# Altium schematic symbol library RDM_ALT_SCH.SchLib: 270 symbols (part 2 of 4)
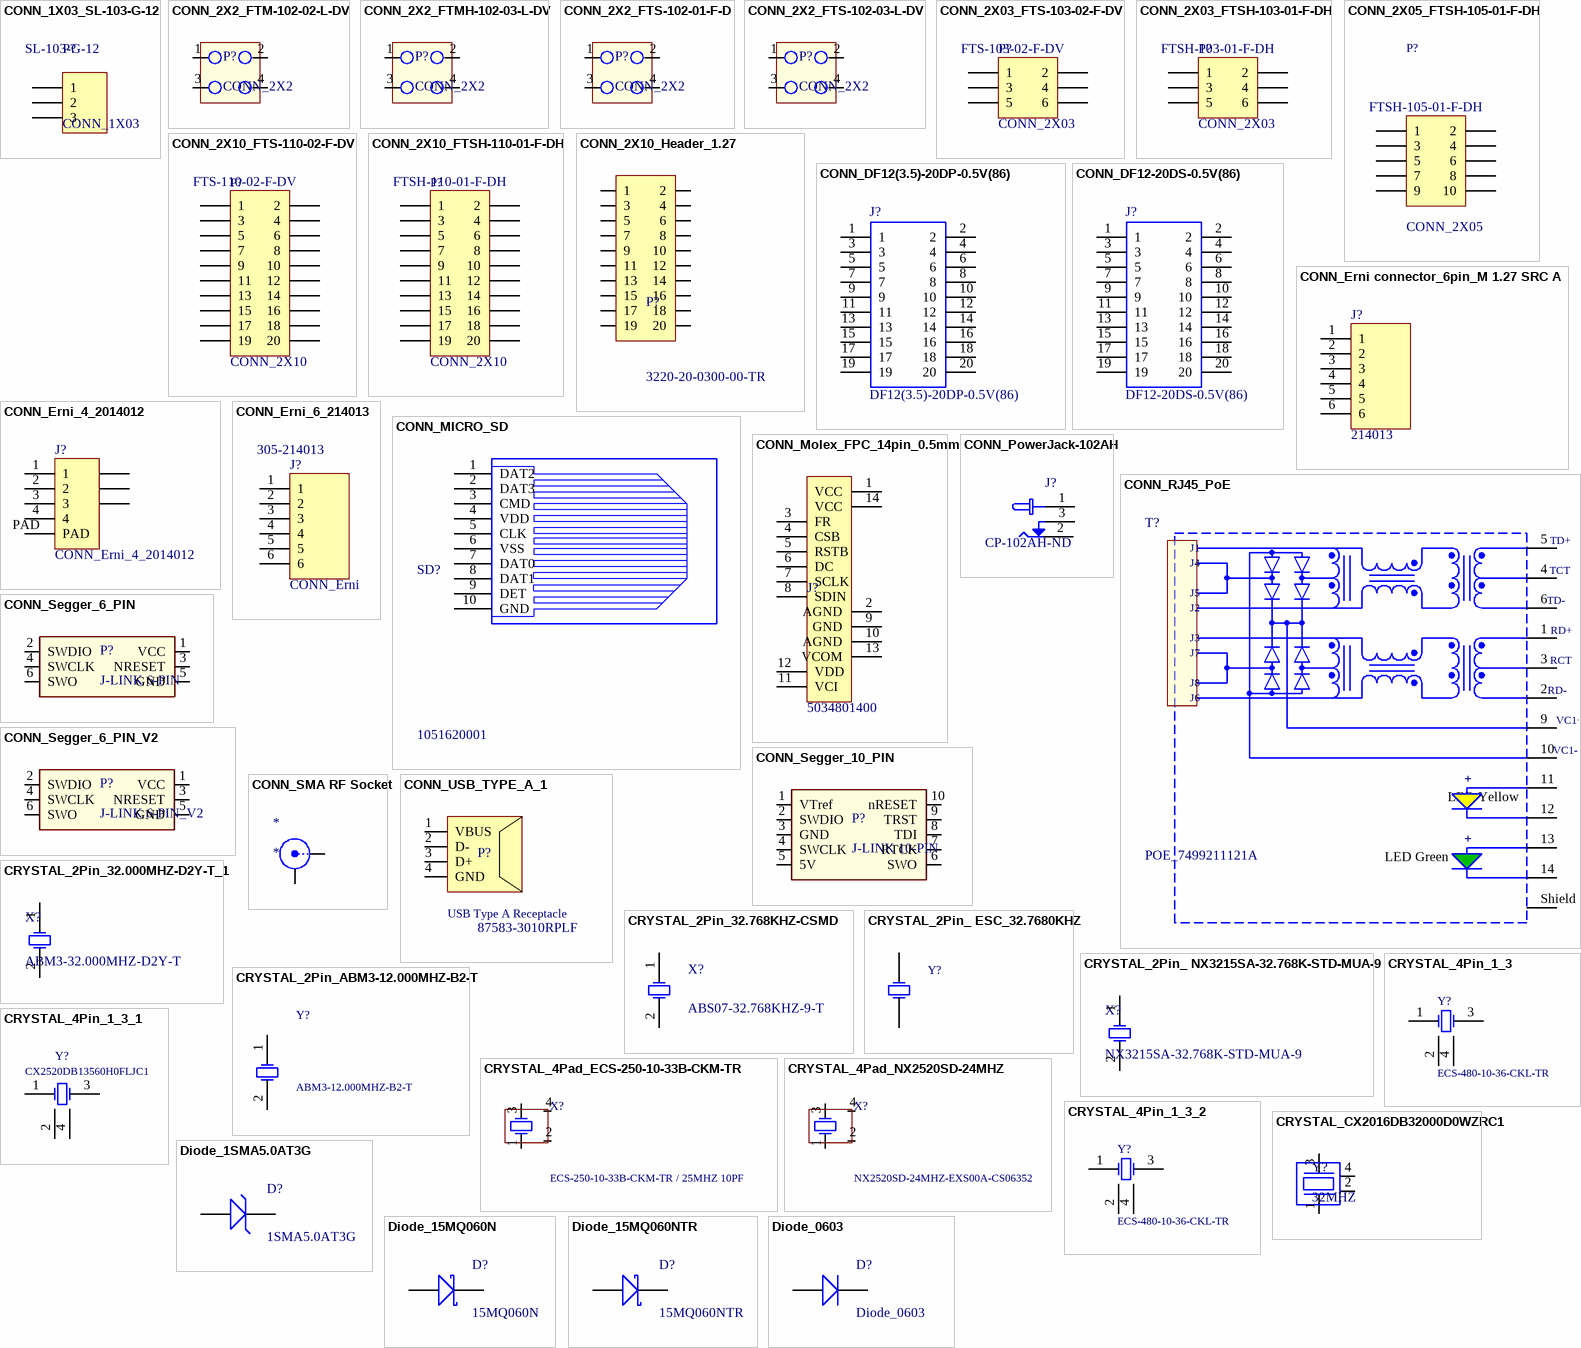
[diagram p10: symbols CONN_1X03_SL-103-G-12 to Diode_0603]

## CONN_2X2_FTS-102-03-L-DV
designator P?, comment CONN_2X2
4 Positionen, Steckleiste, kürzbar Steckverbinder, 0,050" (1,27mm), Oberflächenmontage, Gold; Manufacturer: Samtec; Mnaufacturer PartNr: FTS-102-03-L-DV; Replaceable: no; value: 2x2 connector; Footprint/Package: CONN SMD 1.27MM; Supplier 1: Digi-Key; Supplier Part Number 1: SAM1159-02-ND; Remark: *; Datasheet Link: http://suddendocs.samtec.com/prints/fts-d.pdf
footprint FTS-102-03-L-DV (CONN HEADER SMD 4POS 1.27MM)
pins: 1, 2, 3, 4

## CONN_2X03_FTS-103-02-F-DV
designator P?, comment CONN_2X03  Manufacturer PartNr: FTS-103-02-F-DV
6Pin, 2Rows, MICRO LOW-PROFILE TERMINAL STRIPS; Manufacturer: Samtec; Replaceable: *; Footprint/Package: *; Supplier 1: Digi-Key; Supplier 2: Mouser; Supplier 3: Farnell; Supplier Part Number 1: SAM13893DKR-ND; Supplier Part Number 2: 200-FTS10302FDVTR; Supplier Part Number 3: 1928022
footprint Samtec_FTS-103-02-F-DV_6_R
pins: 1, 2, 3, 4, 5, 6

## CONN_2X03_FTSH-103-01-F-DH
designator P?, comment CONN_2X03  Manufacturer PartNr: FTSH-103-01-F-DH
6Pin, 2Rows, MICRO LOW-PROFILE TERMINAL STRIPS; Manufacturer: Samtec; Replaceable: no; Footprint/Package: 1.27 mm
footprint FTSH-103-01-F-DH
pins: 1, 2, 3, 4, 5, 6

## CONN_2X05_FTSH-105-01-F-DH
designator P?, comment CONN_2X05  Manufacturer PartNr: FTSH-105-01-F-DH
10Pin, 2Rows, side/horizontally, MICRO LOW-PROFILE TERMINAL STRIPS; Manufacturer: Samtec; Replaceable: no; ComponentLink1Description: mouser; ComponentLink1URL: https://www.mouser.ch/ProductDetail/Samtec/FTSH-110-02-F-DH?qs=sGAEpiMZZMs%252bGHln7q6pm8Vn94ktop%2fJX5D4YaS%252bHqWex9Ov5NBeXw%3d%3d; Footprint/Package: 1.27 mm
footprint FTSH-105-01-F-DH
pins: 1, 2, 3, 4, 5, 6, 7, 8, 9, 10

## CONN_2X10_FTS-110-02-F-DV
designator P?, comment CONN_2X10  Manufacturer PartNr: FTS-110-02-F-DV
20Pin, 2Rows, MICRO LOW-PROFILE TERMINAL STRIPS; Manufacturer: Samtec; Replaceable: *; Footprint/Package: *; Supplier 1: Farnell; Supplier 2: Digi-Key; Supplier 3: Mouser; Supplier Part Number 1: 2856415; Supplier Part Number 2: SAM11236-ND; Supplier Part Number 3: 200-FTS11002FDV; ComponentLink1Description: mouser; ComponentLink1URL: https://www.mouser.ch/ProductDetail/Samtec/FTS-110-02-F-DV?qs=sGAEpiMZZMs%252bGHln7q6pm8Vn94ktop%2fJBJE8kZlEC9khaSba54SEVA%3d%3d
footprint Samtec_FTS-110-02-F-DV_20_R
pins: 1, 2, 3, 4, 5, 6, 7, 8, 9, 10, 11, 12, 13, 14, 15, 16, 17, 18, 19, 20

## CONN_2X10_FTSH-110-01-F-DH
designator P?, comment CONN_2X10  Manufacturer PartNr: FTSH-110-01-F-DH
20Pin, 2Rows, side/horizontally, MICRO LOW-PROFILE TERMINAL STRIPS; Manufacturer: Samtec; Replaceable: no; ComponentLink1Description: mouser; ComponentLink1URL: https://www.mouser.ch/ProductDetail/Samtec/FTSH-110-02-F-DH?qs=sGAEpiMZZMs%252bGHln7q6pm8Vn94ktop%2fJX5D4YaS%252bHqWex9Ov5NBeXw%3d%3d; Footprint/Package: 1.27 mm; Supplier 1: Digi-Key; Supplier 2: Farnell; Supplier 3: Mouser; Supplier Part Number 1: SAM11236-ND; Supplier Part Number 2: 2856415; Supplier Part Number 3: 200-FTS11002FDV
footprint FTSH-110-01-F-DH
pins: 1, 2, 3, 4, 5, 6, 7, 8, 9, 10, 11, 12, 13, 14, 15, 16, 17, 18, 19, 20

## CONN_2X10_Header_1.27
designator P?, comment 3220-20-0300-00-TR
Connector Header Surface Mount 20 position 0.050" (1.27mm); Manufacturer: CNC Tech; Replaceable: no; Footprint/Package: 2x10 Pads, see datasheet; Supplier 1: Digi-Key; ComponentLink1Description: mouser; ComponentLink1URL: https://www.mouser.ch/ProductDetail/Harwin/M50-3030342?qs=%2fha2pyFaduiRpn7Sn9fWVp%252bNpdzGcgnS82sSCZLLu%2fUjQZVEB%252bIkNw%3d%3d; Supplier Part Number 1: 1175-2646-1-ND; power: -; Dielectric Grade: -; Manufacturer PartNr: 3220-20-0300-00-TR; value: 3220-20-0300-00-TR; voltage: -
footprint CNC_Tech_Conn_Header_2x10 (3220-20-0300-00-TR)
pins: 1, 2, 3, 4, 5, 6, 7, 8, 9, 10, 11, 12, 13, 14, 15, 16, 17, 18, 19, 20

## CONN_DF12(3.5)-20DP-0.5V(86)
designator J?, comment DF12(3.5)-20DP-0.5V(86)
Connector,Board to Board,DF12 Hirose DF12 Series, 0.5mm Pitch 20 Way 2 Row Straight PCB Header, Solder Termination, 0.3A; Allied_Number: R1051072; Manufacturer_Name: Hirose; Manufacturer_Part_Number: DF12(3.5)-20DP-0.5V(86); RS Part Number: 6082064P; RS Price/Stock: http://uk.rs-online.com/web/p/products/6082064P; Allied Price/Stock: http://www.alliedelec.com/hirose-electric-df12-3-5-20dp-0-5v-86-/R1051072/; Mouser Part Number: 798-DF123520DP0.5V86; Mouser Price/Stock: https://www.mouser.com/Search/Refine.aspx?Keyword=798-DF123520DP0.5V86; Datasheet Link: https://www.hirose.com/product/en/download_file/key_name/DF12/category/Catalog/doc_file_id/31693/?file_category_id=4&item_id=23&is_series=1.pdf; Supplier 1: Digi-Key; Supplier 1 Part Number 1: H5230TR-ND
footprint DF12(4.0)-20DP
pins: 1, 2, 3, 4, 5, 6, 7, 8, 9, 10, 11, 12, 13, 14, 15, 16, 17, 18, 19, 20

## CONN_DF12-20DS-0.5V(86)
designator J?, comment DF12-20DS-0.5V(86)
Connector,Board to Board,DF12 Hirose DF12 Series 0.5mm 20 Way 2 Row Straight PCB Socket Surface Mount Board to Board; Allied_Number: R1051087; Manufacturer_Name: Hirose; Manufacturer_Part_Number: DF12-20DS-0.5V(86); RS Part Number: 1722478; RS Price/Stock: http://uk.rs-online.com/web/p/products/1722478; Allied Price/Stock: http://www.alliedelec.com/hirose-electric-df12-20ds-0-5v-86-/R1051087/; Mouser Part Number: 798-DF12-20DS-0.5V86; Mouser Price/Stock: https://www.mouser.com/Search/Refine.aspx?Keyword=798-DF12-20DS-0.5V86; Datasheet Link: https://www.hirose.com/product/en/products/DF12; Supplier 1: Digi_Key; Supplier Part Number 1: H5214TR-ND
footprint DF12-20DS
pins: 1, 2, 3, 4, 5, 6, 7, 8, 9, 10, 11, 12, 13, 14, 15, 16, 17, 18, 19, 20

## CONN_Erni connector_6pin_M 1.27 SRC A
designator J?, comment 214013
M 1.27 SRC A. 6-pin BA1; Manufacturer: ERNI; Manufacturer PartNr: 214013; ShortDescription: 214013
footprint ERNI_214013_6_R
footprint ERNI_214013 Randmontage_6_R
pins: 1, 2, 3, 4, 5, 6

## CONN_Erni_4_2014012
designator J?
footprint Erni_214012 (Stecker)
pins: 1, 2, 3, 4, PAD, PAD, PAD, PAD

## CONN_Erni_6_214013
designator J?, comment CONN_Erni  Supplier Part Number 1: 305-214013
Headers & Wire Housings 6P 1.27MM SNGL ROW R/A MALE BLK; Manufacturer: ERNI; Manufacturer PartNr: 214013; Replaceable: no; Footprint/Package: 1.27mm; ComponentLink1Description: mouser; ComponentLink1URL: https://www.mouser.ch/ProductDetail/ERNI/214013?qs=sGAEpiMZZMvMXbh32ZmHAMhEPQG9jaj7Ou3J%2fuOb4IQ%3d; Supplier 1: Mouser
footprint ERNI_214013 Randmontage_6_R
pins: 1, 2, 3, 4, 5, 6

## CONN_MICRO_SD
designator SD?, comment 1051620001
Memory Card Connectors 1.45H MICRO SD HEADER WITH D/C PIN, Molex; Manufacturer: Molex, LLC; Replaceable: no; Supplier 1: Digi-Key; Supplier Part Number 1: WM14405CT-ND; Manufacturer PartNr: 1051620001; power: -; Dielectric Grade: -; voltage: -; value: 1051620001
footprint SD-105162-001 (Molex microSD Card Con SMT Right Angle)
pins: 1 DAT2, 2 DAT3, 3 CMD, 4 VDD, 5 CLK, 6 VSS, 7 DAT0, 8 DAT1, 9 DET, 10 GND

## CONN_Molex_FPC_14pin_0.5mm
designator J?, comment 5034801400
14 Position FFC, FPC Connector Contacts, Top and Bottom, Pitch  0.020" (0.50mm) Surface Mount, Right Angle; Manufacturer: Molex; voltage: 50V; Replaceable: no; Manufacturer PartNr: 5034801400; Footprint/Package: specific, see datasheet; Supplier 1: Digi-Key; Supplier Part Number 1: WM1442CT-ND; value: 5034801400; tolerance: -; Dielectric Grade: -
footprint Molex_5034801400 (CONN FPC 14POS 0.50MM Right Angle)
pins: 1 VCC, 2 AGND, 3 FR, 4 CSB, 5 RSTB, 6 DC, 7 SCLK, 8 SDIN, 9 GND, 10 AGND, 11 VCI, 12 VDD, 13 VCOM, 14 VCC

## CONN_PowerJack-102AH
designator J?, comment CP-102AH-ND
PJ-102 Series 2 x 6.5 mm 24 V Horizontal Power Jack w/ Tapered PC Pins,Through Hole, Right Angle; Manufacturer: CUI Devices; Manufacturer PartNr: PJ-102AH; Replaceable: NO; Supplier 1: Digi-Key; Supplier Part Number 1: CP-102AH-ND; Footprint/Package: THD
footprint CUI_PJ-102AH
pins: 1, 2, 3

## CONN_RJ45_PoE
designator T?, comment POE_7499211121A
Magjack Connector WE-RJ45 (PoE) with LAN Transformer, 10/100 Base-T1 Port RJ45, 10/100 Base-T, AutoMDIX, two LEDs; power: PoE (up to 350 mA); Replaceable: no; tolerance: NA; Manaufacturer: Wurth Elektronik; ComponentLink1Description: Manufacturer; ComponentLink1URL: http://www.we-online.de; ComponentLink2Description: Datasheet; ComponentLink2URL: http://katalog.we-online.de/pbs/datasheet/7499211121A.pdf; Manufacturer PartNr: 7499211121A; Supplier 1: Digi-Key; Supplier Part Number 1: 732-1654-ND; value: POE_7499211121A; DIelectric Grade: NA; voltage: NA
footprint PoE_7499211121A (1 Port RJ45 Magjac, Power over Ethernet)
pins: 1 RD+, 2 RD-, 3 RCT, 4 TCT, 5 TD+, 6 TD-, 9 VC1+, 10 VC1-, 11, 12, 13, 14, Shield
text: J1; J4; J5; J2; J3; J7; J8; J6; +; LED Yellow; LED Green

## CONN_Segger_6_PIN
designator P?, comment J-LINK 6-PIN
Segger, J-Link 6-pin Needle Adapter
footprint CONN-SEGGER-6-PIN (J-Link 6-pin Needle Adapter)
pins: 1 VCC, 2 SWDIO, 3 NRESET, 4 SWCLK, 5 GND, 6 SWO

## CONN_Segger_6_PIN_V2
designator P?, comment J-LINK 6-PIN_V2
Segger, J-Link 6-pin Needle Adapter without alignment holes.; Manufacturer PartNr: Segger 6-Pin Needle Adapter; Remark: Comprised of 3 holes and 6 pads; Replaceable: no; value: J Link 6 pin; Datasheet Link: https://www.segger.com/products/debug-probes/j-link/accessories/adapters/6-pin-needle-adapter/; Footprint/Package: See datasheet; Supplier 1: N/A; Supplier Part Number 1: N/A
footprint CONN-SEGGER-6-PIN_VERS2 (J-Link 6-pin Needle Adapter without holes for alignment)
pins: 1 VCC, 2 SWDIO, 3 NRESET, 4 SWCLK, 5 GND, 6 SWO

## CONN_Segger_10_PIN
designator P?, comment J-LINK 10-PIN
Segger, J-Link 10-pin Needle Adapter
footprint CONN-SEGGER-10-PIN (J-Link 10-pin Needle Adapter)
pins: 1 VTref, 2 SWDIO, 3 GND, 4 SWCLK, 5 5V, 6 SWO, 7 RTCK, 8 TDI, 9 TRST, 10 nRESET

## CONN_SMA RF Socket
designator *
SMA Straight PCB SMD Connector for RF
footprint CONSMA001-SMD-G
pins: 1 X, 2 Y

## CONN_USB_TYPE_A_1
designator P?, comment 87583-3010RPLF
USB - A USB 2.0 Receptacle Connector 4 Position Surface Mount, Right Angle; Manufacturer: Amphenol ICC; Replaceable: no; Footprint/Package: SMD, see datasheet; Supplier 1: Digi-Key; ComponentLink1Description: mouser; ComponentLink1URL: https://www.mouser.ch/ProductDetail/Harwin/M50-3030342?qs=%2fha2pyFaduiRpn7Sn9fWVp%252bNpdzGcgnS82sSCZLLu%2fUjQZVEB%252bIkNw%3d%3d; Supplier Part Number 1: 609-6260-1-ND; power: -; Dielectric Grade: -; Manufacturer PartNr: 87583-3010RPLF; voltage: -; value: 87583-3010RPLF
footprint CONN_RCPT_USB_TYPE_A (87583-3010RPLF Amphenol  4Pin SMD)
pins: 1 VBUS, 2 D- , 3 D+, 4 GND
text: USB Type A Receptacle

## CRYSTAL_2Pin_32.000MHZ-D2Y-T_1
designator X?, comment ABM3-32.000MHZ-D2Y-T
Crystal  32MHz ±20ppm Crystal 18pF 25 Ohms 2-SMD, No Lead; Manufacturer: Abracon; Replaceable: no; Footprint/Package: 2-SMD, specific see datasheet; voltage: -; Manufacturer PartNr: ABM3-32.000MHZ-D2Y-T; Price: None; value: ABM3-32.000MHZ-D2Y-T; Supplier 1: Digi-Key; Supplier Part Number 1: 535-10648-6-ND; tolerance: ±20ppm; Dielectric Grade: -
footprint XTAL500X320X130N
pins: 1 OSC1, 2 OSC2

## CRYSTAL_2Pin_32.768KHZ-CSMD
designator X?, comment ABS07-32.768KHZ-9-T
32.768kHz ±20ppm Crystal 9pF 70 kOhms 2-SMD, No Lead; Manufacturer: Abracon; Replaceable: no; Supplier 1: Digi-Key; Supplier Part Number 1: 535-9544-1-ND; Manufacturer PartNr: ABS07-32.768KHZ-9-T; Case/Package: CSMD; tolerance: 20ppm; ComponentLink1URL: https://www.verical.com/server-webapp/html/getDatasheet?partID=719730; ComponentLink1Description: https://www.verical.com/server-webapp/html/getDatasheet?partID=719730; ComponentLink2URL: http://www.farnell.com/datasheets/1883680.pdf; ComponentLink2Description: http://www.farnell.com/datasheets/1883680.pdf; ComponentLink3URL: http://www.abracon.com/Resonators/ABS07.pdf; ComponentLink3Description: http://www.abracon.com/Resonators/ABS07.pdf; ComponentLink4URL: http://www.farnell.com/datasheets/1912628.pdf; ComponentLink4Description: http://www.farnell.com/datasheets/1912628.pdf; ComponentLink5URL: https://abracon.com/Support/PackageDrawing/Resonators/ABS07.PDF; ComponentLink5Description: https://abracon.com/Support/PackageDrawing/Resonators/ABS07.PDF; power: -; value: ABS07-32.768KHZ-9-T; voltage: -; Footprint/Package: 2-SMD, No Lead
footprint ABS-07 (2-SMD, No Lead)
pins: 1 OSC1, 2 OSC2

## CRYSTAL_2Pin_ ESC_32.7680KHZ
designator Y?, comment 32.7680KHZ 9PF SMD  (value not drawn)
32,768kHz, ±20ppm crystal, 9pF,2-SMD, no lead; Manufacturer: ESC Inc.; Manufacturer PartNr: ECS-.327-9-12R-TR; Replaceable: no; value: XTAL 32.768kHz; ShortDescription: 32.768KHZ; Footprint/Package: 0.8x1.3; Supplier 1: Digi-Key; Supplier Part Number 1: XC2745CT-ND; ComponentLink1Description: digikey; ComponentLink1URL: https://www.digikey.com/product-detail/en/abracon-llc/ABM3-12.000MHZ-B2-T/535-9100-2-ND/675295; Load Capacitance: 9 pF; Datasheet Link: https://ecsxtal.com/store/pdf/ECX-12R.pdf
footprint ECS_327-9-12R-TR (SMD CRYSTAL 32.7680KHZ)
pins: 1 OSC1, 2 OSC2

## CRYSTAL_2Pin_ NX3215SA-32.768K-STD-MUA-9
designator X?, comment NX3215SA-32.768K-STD-MUA-9
32.768kHz ±20ppm Crystal 9pF 70 kOhms 2-SMD, No Lead; Manufacturer: NDK America; Replaceable: no; Footprint/Package: 2-SMD, specific see datasheet; voltage: -; Manufacturer PartNr: NX3215SA-32.768K-STD-MUA-9; value: NX3215SA-32.768K-STD-MUA-9; Supplier 1: Digi-Key; Supplier Part Number 1: 644-1155-1-ND; tolerance: ±20ppm; Dielectric Grade: -; power: -
footprint NX3215SA (CRYSTAL NDK America 2-SMD, No Lead)
pins: 1 OSC1, 2 OSC2

## CRYSTAL_2Pin_ABM3-12.000MHZ-B2-T
designator Y?, comment ABM3-12.000MHZ-B2-T
12MHz ±20ppm Crystal 18pF 60 Ohms 2-SMD, No Lead; Manufacturer: Abracon LLC; Replaceable: no; Manufacturer PartNr: ABM3-12.000MHZ-B2-T; ShortDescription: 12MHz; Footprint/Package: 2-SMD; ComponentLink1Description: digikey; ComponentLink1URL: https://www.digikey.com/product-detail/en/abracon-llc/ABM3-12.000MHZ-B2-T/535-9100-2-ND/675295
footprint ABM3-12.000MHZ-B2-T
pins: 1 OSC1, 2 OSC2

## CRYSTAL_4Pad_ECS-250-10-33B-CKM-TR
designator X?, comment ECS-250-10-33B-CKM-TR / 25MHZ 10PF
25MHz ±10ppm Crystal 10pF 40 Ohms 4-SMD, No Lead; Manufacturer: ESC Inc.; Replaceable: no; Manufacturer PartNr: ECS-250-10-33B-CKM-TR; Footprint/Package: 4-SMD, No Lead; Supplier 1: Digi-Key; Supplier Part Number 1: XC2479DKR-ND; ComponentLink1Description: digikey; ComponentLink1URL: https://www.digikey.com/product-detail/en/abracon-llc/ABM3-12.000MHZ-B2-T/535-9100-2-ND/675295; Load Capacitance: 10 pF; value: ECS-250-10-33B-CKM-TR / 25MHZ 10PF; Dielectric Grade: -; voltage: -
footprint ECS-33B (SMD Crystal, SMD; Body 3.2 x 2.5 mm (LxW max))
pins: 1 OSC1, 2 OSC2, 3 OSC2, 4 OSC3

## CRYSTAL_4Pad_NX2520SD-24MHZ
designator X?, comment NX2520SD-24MHZ-EXS00A-CS06352
24MHz ±15ppm Crystal 12pF 50 Ohms 4-SMD, No Lead; Manufacturer: NDK America, Inc.; Replaceable: no; Manufacturer PartNr: NX2520SD-24MHZ-EXS00A-CS06352; Footprint/Package: 4-SMD, No Lead; Supplier 1: Digi-Key; Supplier Part Number 1: 644-1214-1-ND; ComponentLink1Description: digikey; ComponentLink1URL: https://www.digikey.com/product-detail/en/abracon-llc/ABM3-12.000MHZ-B2-T/535-9100-2-ND/675295; Load Capacitance: 12 pF; value: NX2520SD-24MHZ-EXS00A-CS06352; Dielectric Grade: -; voltage: -
footprint NX2520SD-24MHZ-EX (SMD Crystal, SMD; Body 3.2 x 2.5 mm (LxW max))
pins: 1 OSC1, 2 OSC2, 3 OSC2, 4 OSC3

## CRYSTAL_4Pin_1_3
designator Y?, comment ECS-480-10-36-CKL-TR
48MHz, SMD CRYSTAL; Manufacturer: ECS; Replaceable: no; Manufacturer PartNr: ECS-480-10-36-CKL-TR; ShortDescription: 48MHz; Footprint/Package: 2.5 x 2.0 mm; ComponentLink1Description: mouser; ComponentLink1URL: https://www.mouser.ch/ProductDetail/ECS/ECS-480-10-36-CKL-TR?qs=%2fha2pyFaduiJDDUMn7kLm%2fCYfOvqPL5iL4hK6g%252bPFacvo4wWhO4d4UMTkDEH%252bJpH; Supplier 1: Mouser; Supplier Part Number 1: 520-480-10-36-CKLT
footprint ECS_ECX-2236_4_R
pins: 1 OSC1, 2 OSC2, 3 OSC2, 4 OSC3

## CRYSTAL_4Pin_1_3_1
designator Y?, comment CX2520DB13560H0FLJC1
13.56MHz ±10ppm Crystal 12pF 150 Ohms 4-SMD, No Lead
footprint AVX/Kyocera_DFN4_4_RWH (TXCCORPORATION_4-SMD_4_R)
footprint AVX/Kyocera_DFN4_4_RWH
pins: 1 OSC1, 2 OSC2, 3 OSC3, 4 OSC4

## CRYSTAL_4Pin_1_3_2
designator Y?, comment ECS-480-10-36-CKL-TR
48MHz, SMD CRYSTAL; Manufacturer: ECS; Manufacturer PartNr: ECS-480-10-36-CKL-TR; ShortDescription: 48MHz
footprint ECS_ECX-2236_4_R
pins: 1 OSC1, 2 OSC2, 3 OSC2, 4 OSC3

## CRYSTAL_CX2016DB32000D0WZRC1
designator Y?, comment 32MHZ
32MHz ±25ppm Crystal 8pF 60 Ohms 4-SMD, No Lead; Manufacturer: Kyocera; Manufacturer PartNr: CX2016DB32000D0WZRC1; value: XTAL 32 MHz; Replaceable: no; Supplier 1: Digi-Key; Supplier Part Number 1: 1253-1586-1-ND; Case/Package: SMD/SMT; Frequency: 32MHz; Frequency Stability: 25ppm; Load Capacitance: 8pF; Footprint/Package: See datasheet; Datasheet Link: https://media.digikey.com/pdf/Data%20Sheets/AVX%20PDFs/CX2016DB32000D0WZRC1_Spec.pdf
footprint Kyocera_CX2016DB32000 (CRYSTAL 32.0000MHZ 8PF SMD)
pins: 1 OSC1, 2 OSC2, 3 OSC3, 4 OSC4

## Diode_1SMA5.0AT3G
designator D?, comment 1SMA5.0AT3G
TVS Zener 5V 400W UniDirectional SMA ON Semiconductor 1SMA5.0AT3G,2-Pin SMA; Manufacturer: Littelfuse Inc.; Replaceable: no; voltage: 6.4V; Manufacturer PartNr: 1SMA5.0AT3G; Supplier 1: Digi-Key; Supplier Part Number 1: F11528CT-ND; Footprint/Package: DO-214AC, SMA; value: 1SMA5.0AT3G
footprint ISM_DIOM5226X220N
pins: 1 K, 2 A

## Diode_15MQ060N
designator D?, comment 15MQ060N
Diode Schottky 60V 2.1A Surface Mount SMA (DO-214AC); Manufacturer: SMC; Manufacturer PartNr: 15MQ060NTR; Replaceable: no; value: 15MQ060N; Supplier 1: Digi-Key; Supplier Part Number 1: 1655-1353-1-ND; voltage: 60V; Footprint/Package: DO-214AC, SMA
footprint SMC_SMA_2_R
pins: 1 K, 2 A

## Diode_15MQ060NTR 
designator D?, comment 15MQ060NTR
Diode Schottky 60V 2,1A Oberflächenmontage SMA (DO-214AC); Manufacturer: SMC Diode Solutions; Replaceable: no; ComponentLink1Description: mouser; ComponentLink1URL: https://www.mouser.ch/ProductDetail/Diodes-Incorporated/DESD3V3S1BL-7B?qs=%2fha2pyFaduhA707awRoRgtNXj1BWecNQPXz8CtVYm9O48rqwfwJI0g%3d%3d; Footprint/Package: SMA (DO-214AC); Supplier 1: Digi-Key; Supplier Part Number 1: 1655-1353-2-ND; value: 15MQ060NTR; Manufacturer PartNr: 15MQ060NTR
footprint DFN1006-2 (DFN, 2-Leads, Body 0.57x1.00mm, Pitch 0.65mm, IPC Medium Density)
pins: 1 K, 2 A

## Diode_0603
designator D?
Diodes - General Purpose, Power, Switching IO=150mA VR=75V HIGH SPEED; Manufacturer: Bourns; Manufacturer PartNr: CD0603-S01575; Replaceable: yes; ComponentLink1Description: mouser; ComponentLink1URL: https://www.mouser.ch/ProductDetail/Diodes-Incorporated/DESD3V3S1BL-7B?qs=%2fha2pyFaduhA707awRoRgtNXj1BWecNQPXz8CtVYm9O48rqwfwJI0g%3d%3d; Footprint/Package: 0603; Supplier 1: Newark; Supplier Part Number 1: 09J8031
footprint Diode 0603
pins: 1 A, 2 K

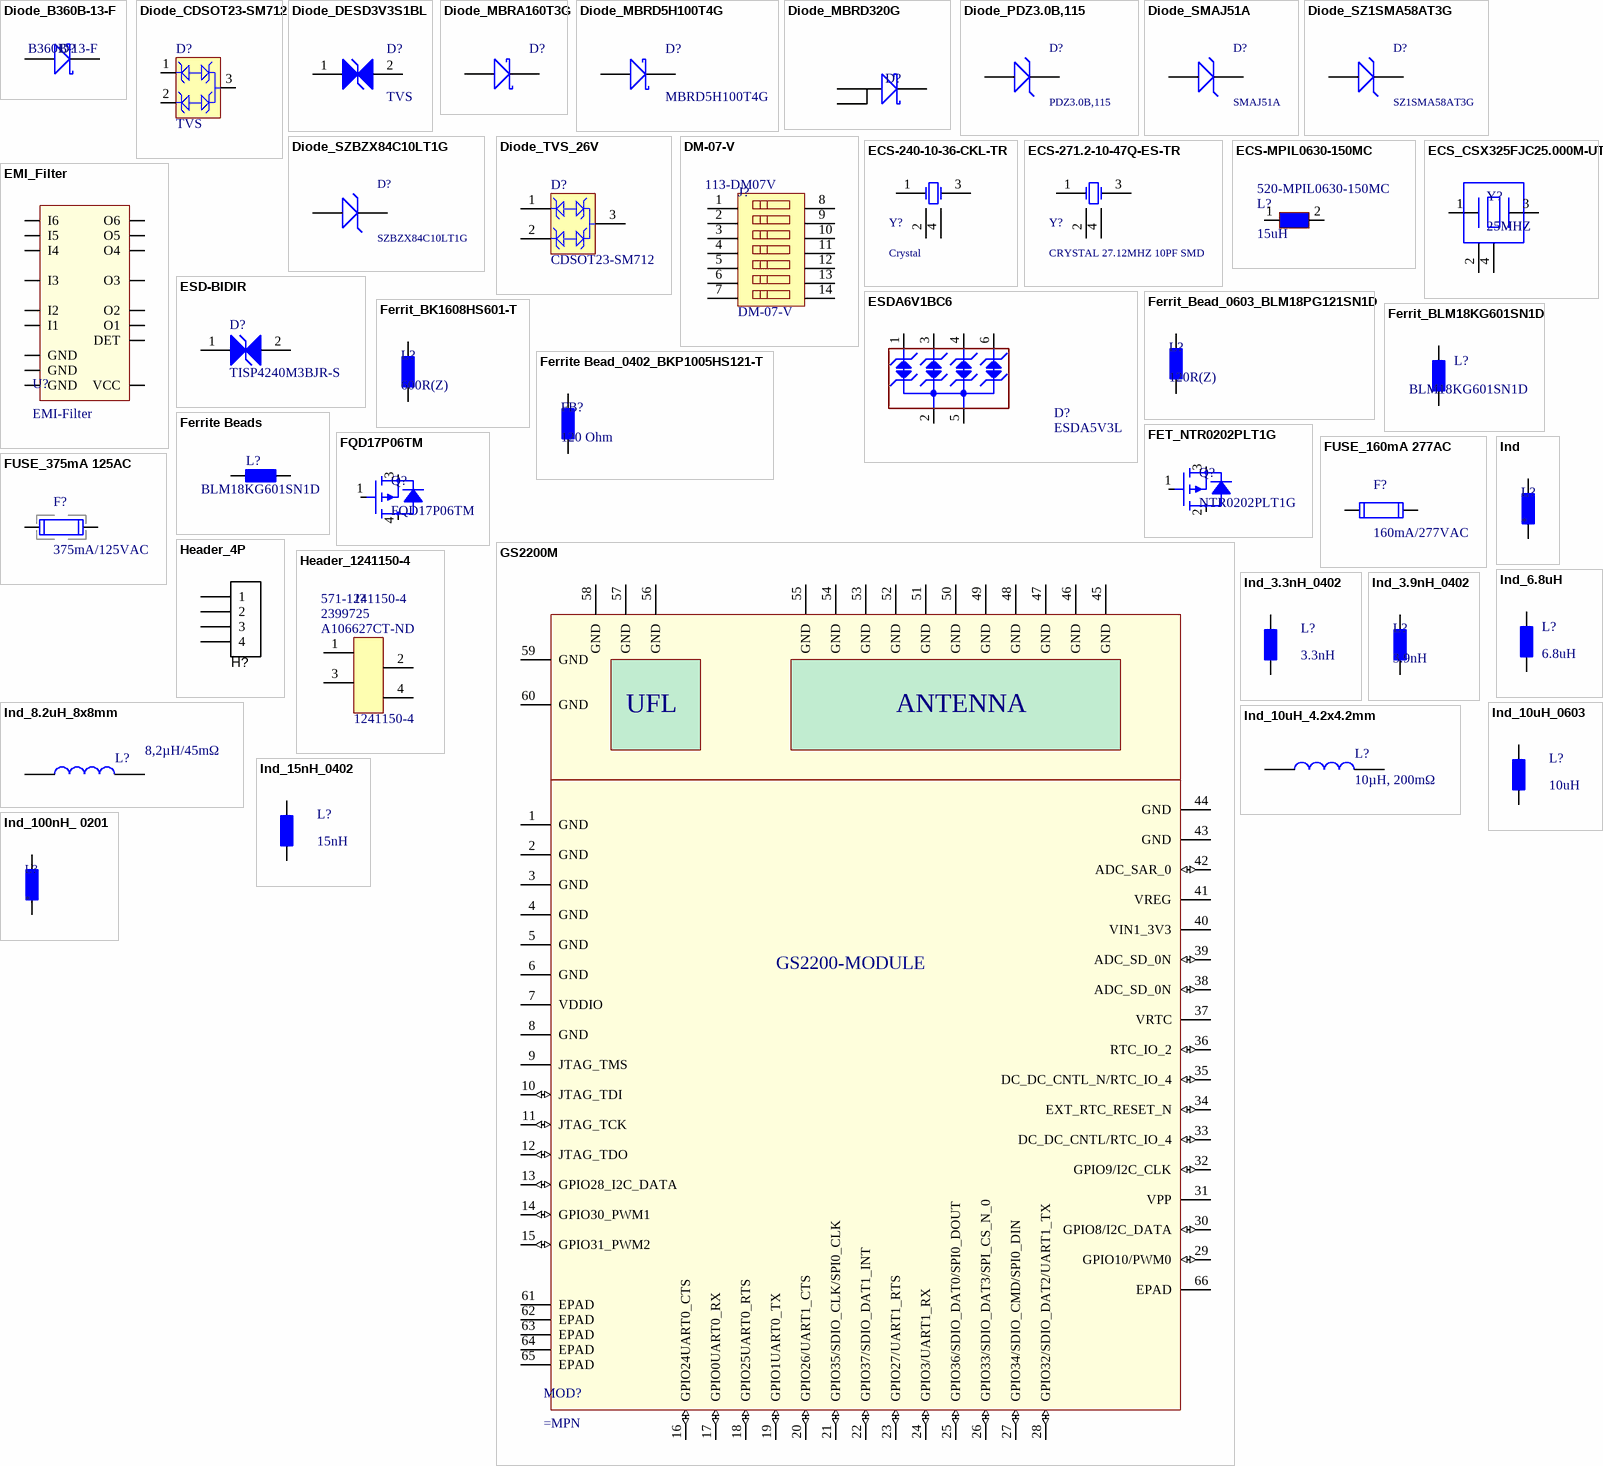
[diagram p3: symbols Diode_B360B-13-F to Ind_100nH_ 0201]

## Diode_B360B-13-F
designator D?, comment B360B-13-F
Diode Schottky 60V 3A Surface Mount SMB; Manufacturer: Diodes Incorporated; Replaceable: no; ComponentLink1Description: mouser; ComponentLink1URL: https://www.mouser.ch/ProductDetail/Diodes-Incorporated/B360B-13-F?qs=sGAEpiMZZMtQ8nqTKtFS%2fP8bhA82jfmw8ipi2fZa5J8%3d; Manufacturer PartNr: B360B-13-F; Footprint/Package: DO-214AA, SMB; Supplier 2: Mouser; Supplier 1: Digi-Key; Supplier Part Number 2: 621-B360B-F; Supplier Part Number 1: B360B-FDIDKR-ND; value: B360B-13-F
footprint SMB_B360B-13-F (Diode Schottky DO-214AC (SMA))
pins: 1 K, 2 A

## Diode_CDSOT23-SM712
designator D?, comment TVS
ESD Suppressors / TVS Diodes SOT-23 7V400W Low Capacitance; Manufacturer: Bourns; Manufacturer PartNr: CDSOT23-SM712; Replaceable: no; ComponentLink1Description: mouser; ComponentLink1URL: https://www.mouser.ch/ProductDetail/Bourns/CDSOT23-SM712?qs=sGAEpiMZZMviKXukECHWvZSlzh2FqLKC; Footprint/Package: SOT-23; Supplier 1: Mouser; Supplier 2: Digi-Key; Supplier 3: Farnell; Supplier Part Number 1: 652-CDSOT23-SM712; Supplier Part Number 2: CDSOT23-SM712DKR-ND; Supplier Part Number 3: 1824869
footprint BOUR-SOT23-3_V (SOT23, 3-Leads, Body 2.9x1.3mm, Pitch 0.95mm)
pins: 1, 2, 3

## Diode_DESD3V3S1BL
designator D?, comment TVS
ESD Suppressors / TVS Diodes Low Cap Bi TVS 10pF 3.3V 3.8Vbr 25kV; Manufacturer: Diodes Incorporated; Manufacturer PartNr: DESD3V3S1BL-7B; Replaceable: no; ComponentLink1Description: mouser; ComponentLink1URL: https://www.mouser.ch/ProductDetail/Diodes-Incorporated/DESD3V3S1BL-7B?qs=%2fha2pyFaduhA707awRoRgtNXj1BWecNQPXz8CtVYm9O48rqwfwJI0g%3d%3d; Footprint/Package: DFN1006-2; Supplier 1: Mouser; Supplier 2: Digi-Key; Supplier Part Number 2: DESD3V3S1BL-7BDIDKR-ND; Supplier Part Number 1: 621-DESD3V3S1BL-7B
footprint DFN1006-2 (DFN, 2-Leads, Body 0.57x1.00mm, Pitch 0.65mm, IPC Medium Density)
pins: 1 A, 2 K

## Diode_MBRA160T3G
designator D?, comment MBRA160T3G  (value not drawn)
Diode Schottky 60V 1A Oberflächenmontage SMA; Manufacturer: ON Semiconductor; Replaceable: no; power: NA; Footprint/Package: DO-214AC, SMA; Supplier 1: Digi-Key; Supplier Part Number 1: MBRA160T3GOSCT-ND; value: MBRA160T3G; Manufacturer PartNr: MBRA160T3G; Dielectric Grade: NA
footprint DPAK_MBRD5H (only pin 3 and 4 connected)
pins: 1 K, 2 A

## Diode_MBRD5H100T4G
designator D?, comment MBRD5H100T4G
Gleichrichter Diode Schottky 100V 5A Oberflächenmontage DPAK; Manufacturer: ON Semiconductor; Replaceable: no; Footprint/Package: DPAK; Supplier 1: Digi-Key; Supplier Part Number 1: MBRD5H100T4GOSCT-ND; value: MBRD5H100T4G; Manufacturer PartNr: MBRD5H100T4G
footprint DPAK_MBRD5H (only pin 3 and 4 connected)
pins: 3 A, 4 K

## Diode_MBRD320G
designator D?, comment Schottky Diode  (value not drawn)
SCHOTTKY BARRIER RECTIFIERS / 3.0 AMPERES, 20 V; Manufacturer: ON Semiconductor; Manufacturer PartNr: MBRD320G; Replaceable: no; Footprint/Package: DPAK
footprint TO-252-3_MBRD320G
pins: 1, 3, 4

## Diode_PDZ3.0B,115
designator D?, comment PDZ3.0B,115
Zener Diode 3V 400mW ±2% Surface Mount SOD-323; Manufacturer: Nexperia USA Inc.; Replaceable: no; Manufacturer PartNr: PDZ3.0B,115; Footprint/Package: SOD-323,SMD; Supplier 1: Digi-Key; Supplier Part Number 1: 1727-2256-1-ND; power: 400mW; value: PDZ3.0B,115; tolerance: ±2%
footprint SOD-323 (SOD-323 SMD Zener  PDZ3.0B,115)
pins: 1 K, 2 A

## Diode_SMAJ51A
designator D?, comment SMAJ51A
82.4V Clamp 4.9A Ipp Tvs Diode Surface Mount SMA (DO-214AC); Manufacturer: Bourns; Replaceable: no; Manufacturer PartNr: SMAJ51A; Footprint/Package: DO-214AC, SMA; Supplier 3: Farnell; Supplier 1: Digi-Key; Supplier 2: Mouser; Supplier Part Number 1: SMAJ51ABDKR-ND; Supplier Part Number 3: 2836240; Supplier Part Number 2: 652-SMAJ51A; value: SMAJ51A
footprint Bourns_DO-214AC (SMA) small_2_R
pins: 1 K, 2 A

## Diode_SZ1SMA58AT3G
designator D?, comment SZ1SMA58AT3G
93.6V Clamp 4.3A Ipp Tvs Diode Surface Mount SMA; Manufacturer: Littelfuse Inc.; Replaceable: no; power: 400W; Manufacturer PartNr: SZ1SMA58AT3G; Footprint/Package: DO-214AC, SMA; Supplier 1: Digi-Key; Supplier Part Number 1: F11530CT-ND; value: SZ1SMA58AT3G; voltage: 93.6V
footprint SMA_SZ1SMA58AT3G (TVS - Diodes DO-214AC, SMA)
pins: 1 K, 2 A

## Diode_SZBZX84C10LT1G
designator D?, comment SZBZX84C10LT1G
Zener Diode 10V 225mW ±6% Oberflächenmontage SOT-23-3 (TO-236); Manufacturer: ON Semiconductor; Replaceable: no; Manufacturer PartNr: SZBZX84C10LT1G; Footprint/Package: SOT-23-3 (TO-236); Supplier 1: Digi-Key; Supplier Part Number 1: SZBZX84C10LT1GOSDKR-ND; power: 225mW; value: SZBZX84C10LT1G; voltage: 10V
footprint SOT-23_BZX84 (Footprint not found)
pins: 1 A, 3 K

## Diode_TVS_26V
designator D?, comment CDSOT23-SM712
TVSDiode, 26V, 14V Clamp 17A (8/20µs) Ipp, Surface Mount SOT-23-3, Applications RS-485; Manufacturer: Bourns; power: 400W; Replaceable: no; Dielectric Grade: NA; Supplier 1: Digi-Key; Package / Case: TO-236-3,SC-59,SOT-23-3; Supplier Part Number 1: CDSOT23-SM712CT-ND; voltage: 26V, 14V; value: CDSOT23-SM712; Footprint/Package: DO-214AC-2 (SMA); Manufacturer PartNr: CDSOT23-SM712
footprint BOUR-SOT23-3_V (SOT23, 3-Leads, Body 2.9x1.3mm, Pitch 0.95mm)
pins: 1, 2, 3

## DM-07-V
designator J?  Supplier Part Number 1: 113-DM07V  (net tie)
DIP Switches/SIP Switches Dip switch SMD type 7 Positions; Replaceable: no; Footprint/Package: 1.27mm; Supplier 1: Mouser; ComponentLink1Description: mouser; ComponentLink1URL: https://www.mouser.ch/ProductDetail/Diptronics/DM-07-V?qs=sGAEpiMZZMv%2f%252b2JhlA6ysNO310kSljHRbctHIUEDhZo%3d
footprint DM-07-V (DIP Switch 7 Position)
pins: 1, 2, 3, 4, 5, 6, 7, 8 1, 9 2, 10 3, 11 4, 12 5, 13 6, 14 7

## ECS-240-10-36-CKL-TR
designator Y?, comment Crystal
Quarz 24MHz-10pF 10ppm-10C +70C; Manufacturer Part Number: ECS-240-10-36-CKL-TR; Manufacturer: ECS; Replaceable: No; Load Capacitance: 10pF; Manufacturer PartNr: ECS-240-10-36-CKL-TR; Supplier 1: Mouser; Supplier Part Number 1: 520-240-10-36-CKLT; Footprint/Package: specific, see datasheet
footprint ECS_ECX-2236_4_R
pins: 1 OSC1, 2 OSC2, 3 OSC2, 4 OSC3

## ECS-271.2-10-47Q-ES-TR
designator Y?, comment CRYSTAL 27.12MHZ 10PF SMD
Manufacturer Part Number: ECS-271.2-10-47Q-ES-TR
footprint ECS_1247Q SMD (1.6*1.3mm Footprint)
pins: 1 OSC1, 2 OSC2, 3 OSC2, 4 OSC3

## ECS-MPIL0630-150MC
designator L?, comment 15uH  Supplier Part Number 1: 520-MPIL0630-150MC
Fixed Inductors 15uH +/-20% 3A Iron Core Shielded, R=95 mOhms, Height = 3 mm.; Manufacturer: ECS; Manufacturer PartNr: ECS-MPIL0630-150MC; Replaceable: yes; ComponentLink1Description: mouser; ComponentLink1URL: https://www.mouser.ch/ProductDetail/ECS/ECS-MPIL0630-150MC?qs=sGAEpiMZZMsg%252by3WlYCkUy0Se8nYOmwuVn58KWjVF3E%3d; value: 15uH; Footprint/Package: specific, see datasheet; Supplier 1: Mouser; Current: 3A
footprint ECS-MPIL0630-150MC (Fixed Inductors 15uH +/-20% 5A Iron Core Shielded)
pins: 1, 2

## ECS_CSX325FJC25.000M-UT
designator Y?, comment 25MHZ
OSCILLATOR 25.000MHZ 3.3V SMD; Manufacturer: Citizen; Manufacturer Part Number: CSX325FJC25.000M-UT; Current Rating: 5mA; Frequency Stability: 100ppm; Load Capacitance: 15pF; Supplier 1: Digi-Key; Supplier Part Number 1: 300-8691-6-ND; Stock 1: 0; Mount: Surface Mount; Case/Package: SMD/SMT; Number of Pins: 4; Min Operating Temperature: -20°C; Max Operating Temperature: 70°C; Package Quantity: 2000; Packaging: Tape and Reel; Termination: SMD/SMT; Frequency: 25MHz; Max Supply Current: 5mA; Composition: Ceramic; Operating Supply Voltage: 3.3V; Length: 0.126inch; Height: 0.039inch; Width: 0.098inch; ComponentLink1URL: //media.digikey.com/pdf/Data%20Sheets/Citizen%20PDFs/csx325f.pdf; ComponentLink1Description: //media.digikey.com/pdf/Data%20Sheets/Citizen%20PDFs/csx325f.pdf
pins: 1, 2, 3, 4

## EMI_Filter
designator U?, comment EMI-Filter
RLC EMI Filter 3rd Order Low Pass 6 Channel L = 1nH, C = 2.5pF 17-WFBGA, FCBGA; Manufacturer: STMicroelectronics; Manufacturer PartNr: EMIF06-HSD03F3; Replaceable: no; value: EMI-Filter; tolerance: -; power: -; Footprint/Package: 17-WFBGA; Dielectric Grade: -; Supplier 1: Digi-Key; Supplier Part Number 1: 497-15334-1-ND
footprint WFBGA-17-Balls (EMIF06-HSD03F3, EMI/RFI-FILTER)
pins: DET, GND, GND, GND, I1, I2, I3, I4, I5, I6, O1, O2, O3, O4, O5, O6, VCC

## ESD-BIDIR
designator D?, comment TISP4240M3BJR-S
BIDIRECTIONAL THYRISTOR OVERVOLTAGE PROTECTORS; Manufacturer: Bourns; Manufacturer PartNr: TISP4240M3BJR-S; ShortDescription: TISP4240M3BJR-S
footprint Bourns_SMB (DO-214AA)_2_R
pins: 1 A, 2 K

## ESDA6V1BC6
designator D?, comment ESDA5V3L
Clamp Ipp Tvs Diode Surface Mount SOT-23-6 SMD, used e.g in ESD protection for USB; Manufacturer PartNr: ESDA6V1BC6; Manufacturer: STMicroelectronics; Replaceable: no; voltage: 6.1V; value: ESDA5V3L; Dielectric Grade: -; Supplier Part Number 1: 497-6635-1-ND; Supplier 1: Digi-Key; Footprint/Package: SOT-23-6; tolerance: -
footprint SOT23-6L (ESDA6V1BC6)
pins: 1 IO1, 2 IO2, 3 GND, 4 IO3, 5 IO4, 6 NC

## Ferrit_Bead_0603_BLM18PG121SN1D
designator L?, comment 120R(Z)
120 Ohms @ 100MHz 1 Power Line Ferrite Bead 0603 (1608 Metric) 2A 50mOhm; Manufacturer: Murata Electronics; Manufacturer PartNr: BLM18PG121SN1D; Replaceable: yes; value: 120R(Z); tolerance: -; power: -; Footprint/Package: 0603 (1608 metric); Supplier 1: Digi-Key; Supplier Part Number 1: 490-1037-1-ND; Dielectric Grade: -
footprint Inductor 0603 EIA
pins: 1, 2

## Ferrit_BK1608HS601-T
designator L?, comment 600R(Z)
600 Ohms @ 100MHz 1 Ferrite Bead 0603 (1608 Metric) 350mA 450mOhm; Manufacturer: Taiyo Yuden; Manufacturer PartNr: BK1608HS601-T; tolerance: 25%; Replaceable: yes; value: 600R(Z); power: *; Footprint/Package: 0603; current: 350mA; Supplier 1: Mouser; Supplier Part Number 1: 963-BK1608HS601-T
footprint Inductor 0603 EIA
pins: 1, 2

## Ferrit_BLM18KG601SN1D
designator L?, comment BLM18KG601SN1D
600 Ohms @ 100MHz 1 Power Line Ferrite Bead 0603 (1608 Metric) 1.3A 150mOhm; Manufacturer: Murata; Replaceable: yes; ComponentLink1Description: mouser; ComponentLink1URL: https://www.mouser.ch/ProductDetail/Murata-Electronics/BLM18KG601SN1D?qs=%2fha2pyFaduhwu%252bl5Ut0DBIM3rNQdoNKes5nZMQcK7rTjh9KyVuGbqA%3d%3d; Manufacturer PartNr: BLM18KG601SN1D; Footprint/Package: 0603  (1608 metric); Supplier 3: Mouser; Supplier 2: Farnell; Supplier 1: Digi-Key; Supplier Part Number 3: 81-BLM18KG601SN1D; Supplier Part Number 2: 1781094; Supplier Part Number 1: 490-5258-6-ND; value: BLM18KG601SN1D
footprint Resistor 0603 EIA
pins: 1, 2

## Ferrite Bead_0402_BKP1005HS121-T
designator FB?, comment 120 Ohm
FERRITE BEAD 120 OHM 0402; Manufacturer: Taiyo Yuden; Manufacturer Part Number: BKP1005HS121-T; Current Rating: 1A; Shielding: Unshielded; Impedance: 120R; Tolerance: 25%; Number of Lines: 1; DC Resistance (DCR): 140mR; Test Frequency: 100MHz; Supplier 1: Mouser; Supplier Part Number 1: 963-BKP1005HS121-T; Stock 1: 346003; Pricing 1: 1=0.1, 10=0.033, 50=0.033, 100=0.021, 1000=0.015, 10000=0.009 (USD); Mount: Surface Mount; Case/Package: 0402; Number of Pins: 2; Core Material: Ferrite; Case Code (Metric): 1005; Case Code (Imperial): 0402; Min Operating Temperature: -55°C; Max Operating Temperature: 85°C; Packaging: Tape and Reel; Package Quantity: 1; Max Current Rating: 1A; Max DC Current: 1A; Termination: SMD/SMT; Length: 0.039inch; Height: 0.5mm; Width: 0.02inch; Depth: 0.5mm; Lead Free: Lead Free; Halogen Free: Halogen Free; REACH SVHC: Unknown; ComponentLink1URL: http://www.farnell.com/datasheets/1929896.pdf; ComponentLink1Description: http://www.farnell.com/datasheets/1929896.pdf; ComponentLink2URL: http://www.onlinecomponents.com/productFiles/mf-TAI/mlci08_e.pdf; ComponentLink2Description: http://www.onlinecomponents.com/productFiles/mf-TAI/mlci08_e.pdf; ComponentLink3URL: http://ds.yuden.co.jp/TYCOMPAS/ut/detail.do?productNo=BKP1005HS121-T&fileName=BKP1005HS121-T_SS&mode=specSheetDownload; ComponentLink3Description: http://ds.yuden.co.jp/TYCOMPAS/ut/detail.do?productNo=BKP1005HS121-T&fileName=BKP1005HS121-T_SS&mode=specSheetDownload
footprint CAPC1005X55N
pins: 1, 2

## Ferrite Beads
designator L?, comment BLM18KG601SN1D
Chip Ferrite Bead; Manufacturer: Murata; Manufacturer PartNr: BLM18KG601SN1D; ShortDescription: BLM18KG601SN1D
footprint CAP-0603[1608] - RFL (SMD Chip 0603 - CAP - RFL)
footprint CAP-0603[1608] (SMD Chip 0603 - CAP)
pins: 1, 2

## FET_NTR0202PLT1G
designator Q?, comment NTR0202PLT1G
P-Channel 20V 400mA (Ta) 225mW (Ta) Surface Mount SOT-23-3 (TO-236); Manufacturer: ON Semiconductor; tolerance: NA; Replaceable: no; value: NTR0202PLT1G; voltage: 20V; Manufacturer PartNr: NTR0202PLT1G; Footprint/Package: SOT-23-3 (TO-236); Dielectric Grade: NA; ComponentLink1Description: mouser; ComponentLink1URL: https://www.mouser.ch/ProductDetail/Murata-Electronics/GCM155C71A105KE38D?qs=sGAEpiMZZMsh%252b1woXyUXj0FEAttKcN54ouz5zO04smg%3d; Supplier Part Number 1: NTR0202PLT1GOSCT-ND; Supplier 1: Digi-Key; power: 225mW
footprint SOT-23_NTR0202PLT1G (Footprint not found)
pins: 1, 2, 3

## FQD17P06TM
designator Q?
P-Channel 60V 12A (Tc) 2.5W (Ta), 44W (Tc) Surface Mount D-Pak; Manufacturer: ON Semiconductor; tolerance: NA; Replaceable: no; value: FQD17P06TM; voltage: 60V; Manufacturer PartNr: FQD17P06TM; Footprint/Package: TO-252-3, DPak; Dielectric Grade: NA; ComponentLink1Description: mouser; ComponentLink1URL: https://www.mouser.ch/ProductDetail/Murata-Electronics/GCM155C71A105KE38D?qs=sGAEpiMZZMsh%252b1woXyUXj0FEAttKcN54ouz5zO04smg%3d; Supplier Part Number 1: FQD17P06TMCT-ND; Supplier 1: Digi-Key; power: 2.5W
footprint DPAK_FQU17P06 (MOSFET P-CH 60V 12A DPAK)
pins: 1, 3, 4

## FUSE_160mA 277AC
designator F?, comment 160mA/277VAC
Schurter, Fuse 160mA 277V AC 250V DC Fuse Board Mount, SMD; Manufacturer PartNr: 3403.0266.23; Replaceable: no; tolerance: NA; voltage: 277VAC/250VDC; Manufacturer: SCHURTER; Supplier 1: Digi-Key; Supplier Part Number 1: 486-3059-6-ND; value: 160mA/277VAC; Footprint/Package: 2-SMD see datasheet
footprint UMT-H
pins: 1, 2

## FUSE_375mA 125AC
designator F?, comment 375mA/125VAC
375mA, 125V AC 125V DC Fuse with surfacemount holder, 2-SMD; Manufacturer: Littlefuse Inc.; Manufacturer PartNr: 0154.375DR; Replaceable: no; tolerance: NA; voltage: 125VAC/125VDC; Supplier 1: Digi-Key; Supplier Part Number 1: F3150CT-ND; value: 375mA/125VAC; Footprint/Package: 2-SMD see datasheet
footprint Littlefuse_Holder (SMD  Fuse Board 375mA 125VAC/VDC)
pins: 1, 2

## GS2200M
designator MOD?
Microccontroller
pins: 1 GND (power), 2 GND (power), 3 GND (power), 4 GND (power), 5 GND (power), 6 GND (power), 7 VDDIO (power), 8 GND (power), 9 JTAG_TMS, 10 JTAG_TDI (io), 11 JTAG_TCK (io), 12 JTAG_TDO (io), 13 GPIO28_I2C_DATA (io), 14 GPIO30_PWM1 (io), 15 GPIO31_PWM2 (io), 16 GPIO24UART0_CTS (io), 17 GPIO0UART0_RX (io), 18 GPIO25UART0_RTS (io), 19 GPIO1UART0_TX (io), 20 GPIO26/UART1_CTS (io), 21 GPIO35/SDIO_CLK/SPI0_CLK (io), 22 GPIO37/SDIO_DAT1_INT (io), 23 GPIO27/UART1_RTS (io), 24 GPIO3/UART1_RX (io), 25 GPIO36/SDIO_DAT0/SPI0_DOUT (io), 26 GPIO33/SDIO_DAT3/SPI_CS_N_0 (io), 27 GPIO34/SDIO_CMD/SPI0_DIN (io), 28 GPIO32/SDIO_DAT2/UART1_TX (io), 29 GPIO10/PWM0 (io), 30 GPIO8/I2C_DATA (io), 31 VPP (power), 32 GPIO9/I2C_CLK (io), 33 DC_DC_CNTL/RTC_IO_4 (io), 34 EXT_RTC_RESET_N (io), 35 DC_DC_CNTL_N/RTC_IO_4 (io), 36 RTC_IO_2 (io), 37 VRTC (power), 38 ADC_SD_0N (io), 39 ADC_SD_0N (io), 40 VIN1_3V3 (power), 41 VREG (power), 42 ADC_SAR_0 (io), 43 GND (power), 44 GND (power), 45 GND (power), 46 GND (power), 47 GND (power), 48 GND (power), 49 GND (power), 50 GND (power), 51 GND (power), 52 GND (power), 53 GND (power), 54 GND (power), 55 GND (power), 56 GND (power), 57 GND (power), 58 GND (power), 59 GND (power), 60 GND (power), 61 EPAD (power), 62 EPAD (power), 63 EPAD (power), 64 EPAD (power), 65 EPAD (power), 66 EPAD (power)
text: UFL; ANTENNA; GS2200-MODULE

## Header_4P
designator H?, comment Programmer  (value not drawn)  (no BOM)
Header 4-pin
footprint HDR1X4_1.27MMP (Connector; Header; 4 Position, 0.050" pitch)
footprint HDR1X4_2.54MMP (Connector; Header; 4 Position 0.100" pitch)
footprint CONN_FLATFLEX_4C_1MMP_5MML
footprint CONN_FLATFLEX_4C_1MMP_3MML_TOP
footprint CONN_FLATFLEX_4C_1MMP_3MML_BOT
footprint Sift_2.54_2X2 (Stiftleiste SMD 2.54mm 2X8)
footprint FCI_76383
pins: 1, 2, 3, 4

## Header_1241150-4
designator J?, comment 1241150-4  Supplier Part Number 1: A106627CT-ND  Supplier Part Number 2: 2399725  Supplier Part Number 3: 571-1241150-4  (net tie)
Headers & Wire Housings 4P SINGLE ROW; Manufacturer: TE Connectivity; Replaceable: no; Manufacturer PartNr: 1241150-4; Footprint/Package: 2.54mm; Supplier 1: Digi-Key; Supplier 2: Farnell; Supplier 3: Mouser; ComponentLink1Description: mouser; ComponentLink1URL: https://www.mouser.ch/ProductDetail/TE-Connectivity-AMP/1241150-4?qs=sGAEpiMZZMvlX3nhDDO4AEpbkbpWPWuQH5SHPHaX2Mg%3d; value: 1241150-4
footprint 1241150-4 (Headers & Wire Housings 4P SINGLE ROW)
pins: 1, 2, 3, 4

## Ind
designator L?
Inductor; value: *; tolerance: *; power: *; Replaceable: *; Manufacturer: *; Manufacturer PartNr: *; Footprint/Package: *
footprint Inductor 0402 EIA
footprint Inductor 0603 EIA
footprint Inductor 0805 EIA
footprint Inductor 1206 EIA
pins: 1, 2

## Ind_3.3nH_0402
designator L?, comment 3.3nH
3.3nH Unshielded Multilayer Inductor 800mA 170mOhm Max 0402 (1005 Metric); Manufacturer: Murata Electronics; Manufacturer PartNr: LQG15HS3N3S02D; Replaceable: no; Dielectric Grade: -; voltage: -; Supplier 1: DIgi-Key; Supplier Part Number 1: 490-2616-1-ND; Footprint/Package: 0402 (1005 metric); tolerance: -; value: 3.3nH
footprint LQG15HS3N3S02D (Murata Inductor)
pins: 1, 2

## Ind_3.9nH_0402
designator L?, comment 3.9nH
3.9nH Unshielded Multilayer Inductor 700mA 190mOhm Max 0402 (1005 Metric); Manufacturer: Murata; Manufacturer PartNr: LQG15HN3N9S02D; tolerance: ±0,3 nH; Replaceable: no; value: 3.9nH; power: *; Footprint/Package: 0402 (1005 metric); Supplier 1: Digi-Key; Supplier Part Number 1: 490-1079-1-ND
footprint Inductor high freq 0402 EIA
pins: 1, 2

## Ind_6.8uH
designator L?, comment 6.8uH
6.8µH Shielded Wirewound Inductor 3A 74mOhm Max Nonstandard; Manufacturer: Würth; Manufacturer PartNr: 78438357068; Replaceable: no; tolerance: ±20%; value: 6.8uH; Footprint/Package: Specific see datasheet; Supplier 1: Digi-Key; Supplier Part Number 1: 732-11744-1-ND
footprint Würth_4030_2_R
footprint Würth_Special Murata LQH5BPN_2_R
pins: 1, 2

## Ind_8.2uH_8x8mm
designator L?, comment 8,2µH/45mΩ
8.2µH,  45mΩ, 3.7A, shielded Wire-wound SMD Inductor with a Ferrite Core, Bourns SRN8040 Series, 8x8mm oval footprint; Manufacturer PartNr: SRN8040-8R2Y; Geometry.Height: 4mm; Replaceable: no; Manufacturer: Bourns; Supplier 2: Mouser; Footprint/Packlage: 8 x8mm; Supplier 1: DIgi-Key; Supplier Part Number 1: SRN8040-8R2YCT-ND; value: 8,2µH/45mΩ; Supplier Part Number 2: 652-SRN8040-8R2Y
footprint SRN80408R2Y (Footprint not found)
pins: 1, 2

## Ind_10uH_4.2x4.2mm
designator L?, comment 10µH, 200mΩ
10µH Shielded Wirewound Inductor 1.7A 200mOhm Max Nonstandard; Manufacturer: Murata Electronics; Manufacturer PartNr: FDSD0420-H-100M=P3; Replaceable: no; Supplier 1: Digi-Key; Supplier Part Number 1: 490-10861-1-ND; Footprint/Package: Specific see datasheet; value: 10µH, 200mΩ; ComponentLink1Description: Datasheet; ComponentLink1URL: https://www.bourns.com/docs/Product-Datasheets/SRN8040.pdf; tolerance: -; power: -; Dielectric Grade: -
footprint FDSD0420 (FIXED IND 10UH 1.7A 200 MOHM SMD)
pins: 1, 2

## Ind_10uH_0603
designator L?, comment 10uH
10µH Unshielded Wirewound Inductor 80mA 360mOhm 0603 (1608 Metric); Manufacturer: TAIYO YUDEN; Manufacturer PartNr: LBMF1608T100K; tolerance: ±10%; Replaceable: no; value: 10uH; Supplier 1: Digi-Key; Supplier Part Number 1: 587-1714-6-ND; voltage: *; power: *; Footprint/Package: 0603 (1608 metric)
footprint INDC1608X100N
pins: 1, 2

## Ind_15nH_0402
designator L?, comment 15nH
15nH Unshielded Multilayer Inductor 320mA 460mOhm Max 0402 (1005 Metric),  Taiyo Yuden; Manufacturer PartNr: HK100515NJ-T; Replaceable: no; value: 15uH; tolerance: ±5%; Manufacturer: TAIYO YUDEN; voltage: *; power: -; Supplier Part Number 1: 587-1521-1-ND; Supplier 1: Digi-Key; Dielectric Grade: -; Footprint/Package: 0402 (1005 metric)
footprint INDC1005X55N
pins: 1, 2

## Ind_100nH_ 0201
designator L?
Manufacturer: TDK; Manufacturer Part Number: MLG0603PR10JT000; Core Material: Non-Magnetic; Tolerance: 5%; Current Rating: 80mA; Shielding: Unshielded; Inductance: 100nH; DC Resistance (DCR): 4.5R; Self Resonant Frequency: 900MHz; Test Frequency: 300MHz; Supplier 1: Digi-Key; Supplier Part Number 1: 445-7838-2-ND; Stock 1: 735000; Pricing 1: 15000=0.04368, 30000=0.04232, 75000=0.04095, 105000=0.03959 (USD); Mount: Surface Mount; Case/Package: 0201; Case Code (Metric): 0603; Case Code (Imperial): 0201; Min Operating Temperature: -55°C; Max Operating Temperature: 125°C; Package Quantity: 15000; Packaging: Cut Tape; Length: 0.024inch; Width: 0.012inch; Height - Seated (Max): 0.013inch; ComponentLink1URL: https://product.tdk.com/info/en/catalog/datasheets/inductor_commercial_high-frequency_mlg0603p_en.pdf?src-supplier=Digi-Key; ComponentLink1Description: https://product.tdk.com/info/en/catalog/datasheets/inductor_commercial_high-frequency_mlg0603p_en.pdf?src-supplier=Digi-Key
footprint INDC0603X33N (IND_0201)
pins: 1, 2

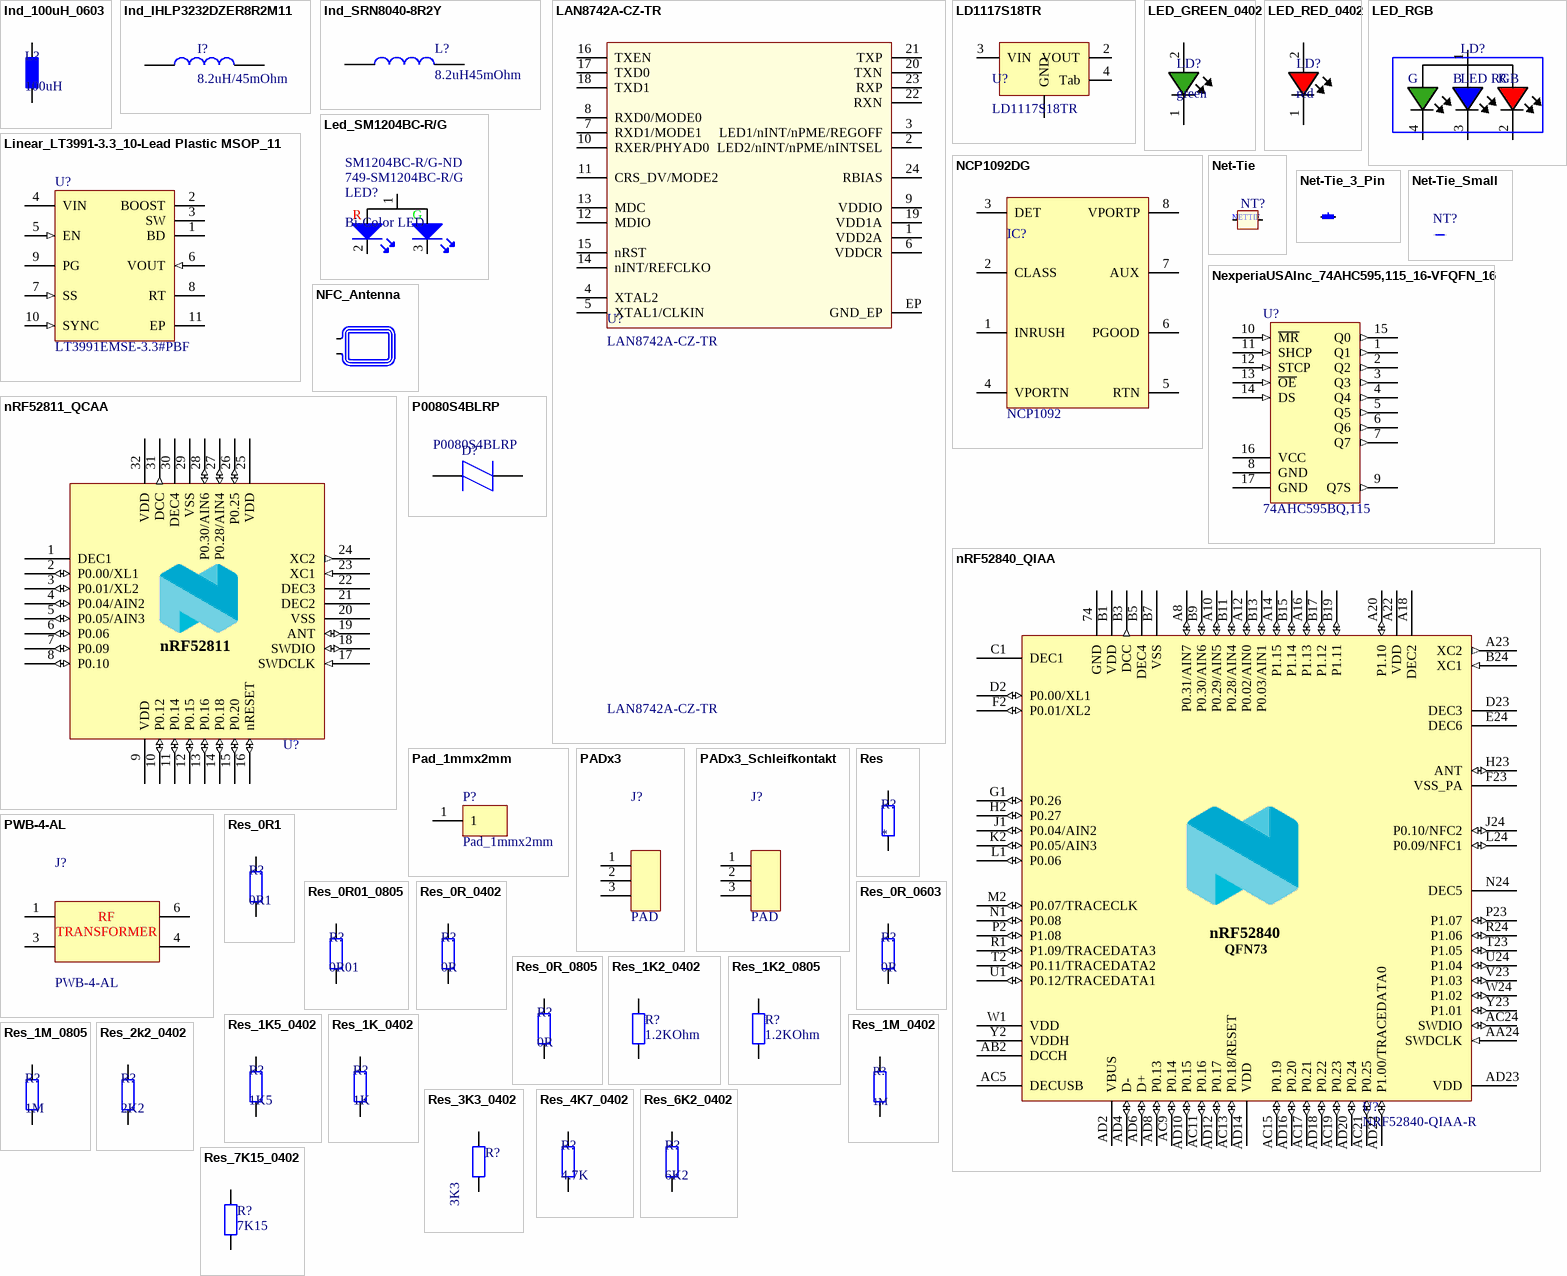
[diagram p4: symbols Ind_100uH_0603 to Res_7K15_0402]

## Ind_100uH_0603
designator L?, comment 100uH
Festinduktivitäten 100uH 810-GLFR1608T150M-LR; Manufacturer: Murata; Manufacturer PartNr: GLFR1608T101M-LR; tolerance: 20%; Replaceable: yes; current: 80mA; value: 100uH; power: *; Footprint/Package: 0603
footprint Inductor 0603 EIA
pins: 1, 2

## Ind_IHLP3232DZER8R2M11
designator I?, comment 8.2uH/45mOhm
FIXED IND 8.2UH 5.7A 45 MOHM SMD; Manufacturer: Vishay Dale; Manufacturer Part Number: IHLP3232DZER8R2M11; Core Material: Ferrite; Saturation Current: 6.6A; Tolerance: 20%; Shielding: Shielded; Self Resonant Frequency: 12.6MHz; DC Resistance (DCR): 45mR; Test Frequency: 100kHz; Supplier 1: Digi-Key; Supplier Part Number 1: 541-1356-6-ND; Stock 1: 0; Mount: Surface Mount; Case/Package: 3232; Number of Pins: 2; Min Operating Temperature: -55°C; Max Operating Temperature: 125°C; Package Quantity: 500; Current Rating: 5.7A; Packaging: Tape and Reel; Inductance Tolerance: 20%; Inductance: 8.2uh; Max DC Current: 6.6A; Termination: SMD/SMT; Military Standard: Not; RMS Current (Irms): 5.7A; Length: 0.34inch; Height: 4mm; Width: 0.322inch; Height - Seated (Max): 0.157inch; Depth: 8.94mm; Radiation Hardening: No; REACH SVHC: Unknown; Lead Free: Lead Free; ComponentLink1URL: http://www.vishay.com/docs/34313/ihlp3232dz11.pdf; ComponentLink1Description: http://www.vishay.com/docs/34313/ihlp3232dz11.pdf; ComponentLink2URL: http://www.farnell.com/datasheets/1911055.pdf; ComponentLink2Description: http://www.farnell.com/datasheets/1911055.pdf
pins: 1, 2

## Ind_SRN8040-8R2Y
designator L?, comment 8.2uH45mOhm
8.2µH Semi-Shielded Wirewound Inductor 3.7A 45mOhm Max Nonstandard; Manufacturer: Bourns; Manufacturer PartNr: SRN8040-8R2Y; Replaceable: no; Supplier 1: Digi-Key; Supplier Part Number 1: SRN8040-8R2YCT-ND; Footprint/Package: Specific see datasheet; value: 8.2µH; ComponentLink1Description: Datasheet; ComponentLink1URL: https://www.bourns.com/docs/Product-Datasheets/SRN8040.pdf; tolerance: -; power: -
footprint SRN80408R2Y
pins: 1, 2

## LAN8742A-CZ-TR
designator U?
10/100M RMII Ethernet transceiver  24-SQFN (4x4); Manufacturer: MICROCHIP; voltage: 1.6V ~ 3.6V; Replaceable: no; Supplier 1: Digi-Key; Supplier Part Number 1: LAN8742A-CZ-CT-ND; tolerance: -; Manufacturer PartNr: LAN8742A-CZ-TR; ComponentLink1Description: Datasheet; ComponentLink1URL: http://tunmcdsvn.tun.st.com/Component_Datasheet_Library/Trunk/IC/MICROCHIP_LAN8742A_RMII_PHY; Footprint/Package: 24-VFQFN Exposed Pad; Dielectric Grade: -; value: LAN8742A-CZ-TR
footprint VQFN24-EPAD_4X4 (Transceiver Ethernet 24-SQFN)
pins: 1 VDD2A, 2 LED2/nINT/nPME/nINTSEL, 3 LED1/nINT/nPME/REGOFF, 4 XTAL2, 5 XTAL1/CLKIN, 6 VDDCR, 7 RXD1/MODE1, 8 RXD0/MODE0, 9 VDDIO, 10 RXER/PHYAD0, 11 CRS_DV/MODE2, 12 MDIO, 13 MDC, 14 nINT/REFCLKO, 15 nRST, 16 TXEN, 17 TXD0, 18 TXD1, 19 VDD1A, 20 TXN, 21 TXP, 22 RXN, 23 RXP, 24 RBIAS, EP GND_EP

## LD1117S18TR
designator U?
Linear Voltage Regulator IC 1 Output 800mA fixed output at 1.8V,SOT-223; Manufacturer: STMicroelectronics; Replaceable: no; voltage: 1,8V; ComponentLink1Description: mouser; ComponentLink1URL: https://www.mouser.ch/ProductDetail/Texas-Instruments/TPS54260DGQR?qs=sGAEpiMZZMvAX9OfPh%252b2NVVXPcZYNNxJ6f9D0IR5ghU%3d; Manufacturer PartNr: LD1117S18TR; Footprint/Package: SOT-223; Supplier 1: Digi-Key; Supplier Part Number 1: 497-7308-1-ND; Dielectric Grade: -; tolerance: -; power: -; value: LD1117S18TR
footprint SOT-223 (Footprint not found)
pins: 1 GND, 2 VOUT (power), 3 VIN, 4 Tab

## LED_GREEN_0402
designator LD?, comment green
Green 570nm LED Indication - Discrete 2.1V 0402 (1005 Metric); Manufacturer: Kingbright; Manufacturer PartNr: APHHS1005CGCK; Replaceable: yes; voltage: 2.1V (forward); Footprint/Package: 0420 (1005 metric); value: green; Supplier 1: Digi-Key; Supplier Part Number 1: 754-1101-1-ND; Dielectric Grade: -; tolerance: -; power: -
footprint LED_APHHS1005CGCK (LED_CHIP_0402)
pins: 1, 2

## LED_RED_0402
designator LD?, comment red
Red 630nm LED Indication - Discrete 1.95V 0402 (1005 Metric); Manufacturer: Kingbright; Manufacturer PartNr: APHHS1005SURCK; Replaceable: yes; voltage: 1.95V (forward); Footprint/Package: 0420 (1005 metric); value: red; Supplier 1: Digi-Key; Supplier Part Number 1: 754-1104-1-ND; Dielectric Grade: -; tolerance: -; power: -
footprint LED_APHHS1005CGCK (LED_CHIP_0402)
pins: 1, 2

## LED_RGB
designator LD?, comment LED RGB
Full Color, Water Clear Lens, -40 to 85 degC, 4-Pin SML 0404 (1010 Metric), RoHS, Tape and Reel; Manufacturer: Lumex Opto; Manufacturer PartNr: SML-LX0404SIUPGUSB; Replaceable: no; Footprint/Package: 0402 (1005 metric); power: *; Supplier 1: Digi-Key; Supplier Part Number 1: 67-2125-1-ND; tolerance: *; value: rgb
footprint LED_RGB_LX0404 (LED RGB CLEAR SMD)
pins: 1, 2, 3, 4
text: G; B; R

## Led_SM1204BC-R/G
designator LED?, comment Bi-Color LED  Supplier Part Number 1: 749-SM1204BC-R/G  Supplier Part Number 2: SM1204BC-R/G-ND
surface mount led red/green; Manufacturer: Bivar; Manufacturer PartNr: SM1204BC-R/G; Replaceable: no; ComponentLink1Description: mouser; ComponentLink1URL: https://www.mouser.ch/ProductDetail/Bivar/SM1204BC-R-G?qs=%2fha2pyFadui4qQS2vEE7ZgAQ86kCJBvBr%2f7ddAy39LDK6FB8gQMnbg%3d%3d; Footprint/Package: specific, see datasheet; Supplier 1: Mouser; Supplier 2: Digi-Key
footprint SM1204BC-R/G_1204
pins: 1, 2, 3
text: R; G

## Linear_LT3991-3.3_10-Lead Plastic MSOP_11
designator U?, comment LT3991EMSE-3.3#PBF
55V, 1.2A Step-Down Regulator with 2.8μA Quiescent Current; Manufacturer: Linear; Manufacturer PartNr: LT3991EMSE-3.3#PBF; ShortDescription: LT3991EMSE-3.3#PBF
footprint Linear_10-Lead Plastic MSOP_11_R
pins: 1 BD (power) "This pin connects to the anode of the boost diode. The BD pin is normally connected to the output.", 2 BOOST "This pin is used to provide a drive voltage, higher than the input voltage, to the internal bipolar NPN power switch.", 3 SW (power) "The SW pin is the output of an internal power switch. Connect this pin to the inductor, catch diode, and boost capacitor.", 4 VIN (power) "The VIN pin supplies current to the LT3991’s internal circuitry and to the internal power switch. This pin must be locally bypassed.", 5 EN (in) "The part is in shutdown when this pin is low and active when this pin is high. The hysteretic threshold voltage is 1.005V going up and 0.975V going down. The EN threshold is only accurate when VIN is above 4.3V. If VIN is (See Datasheet)", 6 VOUT (in) "The LT3991- 3.3 and LT3991-5 regulate the VOUT pin to 3.3V and 5V respectively. This pin connects to the internal 10Mohm feedback divider that programs the fixed output voltage.", 7 SS (in) "A capacitor and a series resistor are tied between SS and ground to slowly ramp up the peak current limit of the LT3991 on start-up. The soft-start capacitor is only actively discharged when EN is low. The SS pin is released (See Datasheet)", 8 RT "A resistor is tied between RT and ground to set the switching frequency.", 9 PG (oc) "The PG pin is the open-drain output of an internal comparator. PGOOD remains low until the FB pin is within 9% of the final regulation voltage. PGOOD is valid when the LT3991 is enabled and VIN is above 4.3V", 10 SYNC (in) "This is the external clock synchronization input. Ground this pin for low ripple Burst Mode operation at low output loads. Tie to a clock source for synchronization, which will include pulse-skipping at low output loads. (See Datasheet)", 11 EP (power) "Ground. The exposed pad must be soldered to PCB."

## NCP1092DG
designator IC?, comment NCP1092
Power Over Ethernet Controller 1 Channel 802.3af (PoE) 8-SOIC; Manufacturer: ON Semiconductor; Manufacturer Part Number: NCP1092DG; Replaceable: no; Supplier 1: Digi-Key; Supplier Part Number 1: NCP1092DGOS-ND; Footprint/Package: SOIC; ComponentLink1URL: http://www.onsemi.com/pub/Collateral/NCP1090-D.PDF; ComponentLink1Description: http://www.onsemi.com/pub/Collateral/NCP1090-D.PDF; ComponentLink2URL: http://www.farnell.com/datasheets/1339888.pdf; ComponentLink2Description: http://www.farnell.com/datasheets/1339888.pdf; ComponentLink3URL: http://www.onsemi.jp/pub_link/Collateral/NCP1090-D.PDF; ComponentLink3Description: http://www.onsemi.jp/pub_link/Collateral/NCP1090-D.PDF; ComponentLink4URL: http://www.mouser.com/ds/2/308/NCP1090-D-45905.pdf; ComponentLink4Description: http://www.mouser.com/ds/2/308/NCP1090-D-45905.pdf
footprint SOIC127P602X173-8N
pins: 1 INRUSH, 2 CLASS, 3 DET (power), 4 VPORTN, 5 RTN, 6 PGOOD (power), 7 AUX, 8 VPORTP

## Net-Tie
designator NT?  (value not drawn)  (net tie, no BOM)
Net-Tie allowing to short two different types of nets.
footprint NET_TIE (Allows to short two different types of nets)
pins: 1, 2
text: NETTIE

## Net-Tie_3_Pin
designator NT?  (value not drawn)  (net tie, no BOM)
Net-Tie allowing to short two different types of nets.
footprint NET_TIE (Allows to short two different types of nets)
pins: 1, 2, 2

## Net-Tie_Small
designator NT?  (value not drawn)  (net tie, no BOM)
Net-Tie allowing to short two different types of nets.
footprint NET_TIE (Allows to short two different types of nets)
pins: 1, 2

## NexperiaUSAInc_74AHC595,115_16-VFQFN_16
designator U?, comment 74AHC595BQ,115
IC 8BIT SHIFT REGISTER 16HVQFN; Manufacturer: Nexperia USA Inc.; Manufacturer PartNr: 74AHC595BQ,115
footprint NexperiaUSAInc_16-VFQFN_16_R
footprint NexperiaUSAInc_16-VFQFN_16_R
footprint NexperiaUSAInc_16-VFQFN_16_R
pins: 1 Q1 (out), 2 Q2 (out), 3 Q3 (out), 4 Q4 (out), 5 Q5 (out), 6 Q6 (out), 7 Q7 (out), 8 GND, 9 Q7S (out), 10 ~{MR} (in), 11 SHCP (in), 12 STCP (in), 13 ~{OE} (in), 14 DS (in), 15 Q0 (out), 16 VCC (power), 17 GND

## NFC_Antenna
designator A?, comment NFC Antenna  (value not drawn)  (no BOM)
Part Number: NFC_ANT_TP; Footprint Doc: TP_2x1mm_TH; LatestRevisionDate: 2016-02-23; Pin Count: 2; Publisher: Nordic Semiconductor; Published: 2016-02-23; Value: NFC Antenna; Note: *
footprint TP_2x1mm_TH
pins: 1, 2